# Altium schematic symbol library BC817-40.Schlib: 1 symbol
Pins are listed as number, name and electrical type; pins without a type are passive.

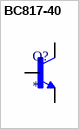
[diagram p0: symbol BC817-40]

## BC817-40
designator Q?
BJT, SOT-23, 45V, 800mA, NPN, 0.31W, 150Â°C
pins: 1 B, 2 E, 3 C